# EAGLE library part BC832-V1 (library BC832)
B3 DCC ,C3 DEC4 for power saving , 10uH , 15nH
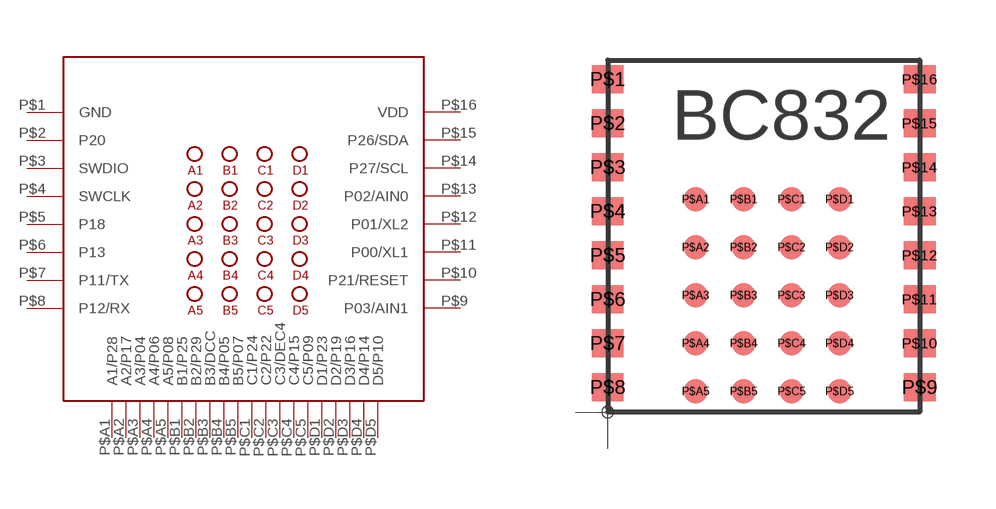
[diagram p1: symbol with the pads of BC832; footprint BC832]

Designator prefix U

## BC832-V1  [BC832]
P$1  GND
P$2  P20
P$3  SWDIO
P$4  SWCLK
P$5  P18
P$6  P13
P$7  P11/TX
P$8  P12/RX
P$9  P03/AIN1
P$10  P21/RESET
P$11  P00/XL1
P$12  P01/XL2
P$13  P02/AIN0
P$14  P27/SCL
P$15  P26/SDA
P$16  VDD
P$A1  A1/P28
P$A2  A2/P17
P$A3  A3/P04
P$A4  A4/P06
P$A5  A5/P08
P$B1  B1/P25
P$B2  B2/P29
P$B3  B3/DCC
P$B4  B4/P05
P$B5  B5/P07
P$C1  C1/P24
P$C2  C2/P22
P$C3  C3/DEC4
P$C4  C4/P15
P$C5  C5/P09
P$D1  D1/P23
P$D2  D2/P19
P$D3  D3/P16
P$D4  D4/P14
P$D5  D5/P10

## Footprint BC832 (pad centres in mm)
smd 0.8 x 0.7: P$1 0,8.32; P$2 0,7.22; P$3 0,6.12; P$4 0,5.02; P$5 0,3.92; P$6 0,2.82; P$7 0,1.72; P$8 0,0.62; P$9 7.8,0.62; P$10 7.8,1.72; P$11 7.8,2.82; P$12 7.8,3.92; P$13 7.8,5.02; P$14 7.8,6.12; P$15 7.8,7.22; P$16 7.8,8.32
smd 0.6 x 0.6: P$A1 2.2,5.319; P$A2 2.2,4.119; P$A3 2.2,2.919; P$A4 2.2,1.719; P$A5 2.2,0.519; P$B1 3.4,5.319; P$B2 3.4,4.119; P$B3 3.4,2.919; P$B4 3.4,1.719; P$B5 3.4,0.519; P$C1 4.6,5.319; P$C2 4.6,4.119; P$C3 4.6,2.919; P$C4 4.6,1.719; P$C5 4.6,0.519; P$D1 5.8,5.319; P$D2 5.8,4.119; P$D3 5.8,2.919; P$D4 5.8,1.719; P$D5 5.8,0.519